# EAGLE library part MCP2515 (library MCP2515)
Microchip Technology’s MCP2515 is a stand-alone Controller Area Network (CAN) controller that implements the CAN specification, version 2.0B. It is capable of transmitting and receiving both standard and extended data and remote frames. The MCP2515 has two acceptance masks and six acceptance filters that are used to filter out unwanted messages, thereby reducing the host MCUs overhead. The MCP2515 interfaces with microcontrollers (MCUs) via an industry standard Serial Peripheral Interface (SPI).
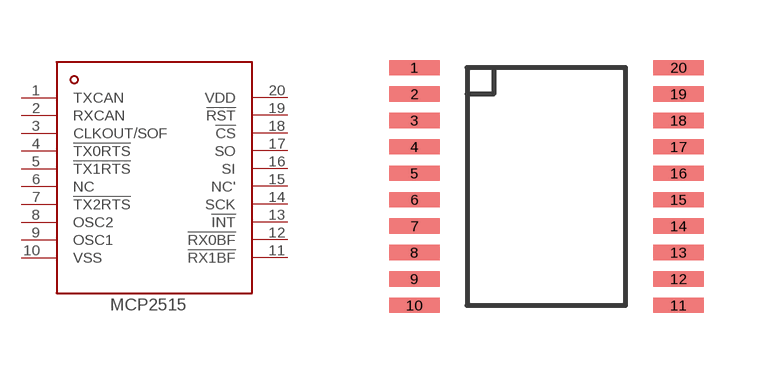
[diagram p0: symbol with the pads of TSSOP20; footprint TSSOP20]

Designator prefix -

## MCP2515  [TSSOP20]
1  TXCAN
2  RXCAN
3  CLKOUT/SOF
4  !TX0RTS
5  !TX1RTS
6  NC
7  !TX2RTS
8  OSC2
9  OSC1
10  VSS
11  !RX1BF
12  !RX0BF
13  !INT
14  SCK
15  NC'
16  SI
17  SO
18  !CS
19  !RST
20  VDD

## Footprint TSSOP20 (pad centres in mm)
TSSOP-20 formatted MCP2515
smd 1.27 x 0.381: 1 -3.302,2.642; 2 -3.302,1.981; 3 -3.302,1.321; 4 -3.302,0.66; 5 -3.302,0; 6 -3.302,-0.66; 7 -3.302,-1.321; 8 -3.302,-1.981; 9 -3.302,-2.642; 10 -3.302,-3.302; 11 3.302,-3.302; 12 3.302,-2.642; 13 3.302,-1.981; 14 3.302,-1.321; 15 3.302,-0.66; 16 3.302,0; 17 3.302,0.66; 18 3.302,1.321; 19 3.302,1.981; 20 3.302,2.642